# Altium footprint library Main.PcbLib: 62 footprints (part 3 of 4)
Each footprint in its own frame and in the unit in brackets; x right, y up, seen from the top. Pads: shape width x height; smd on the part's side, far side on the other; paste and mask are expansions set on the pad; w line width, h text height; cw(c..) or ccw(c..) is an arc to the next point about the centre after c.
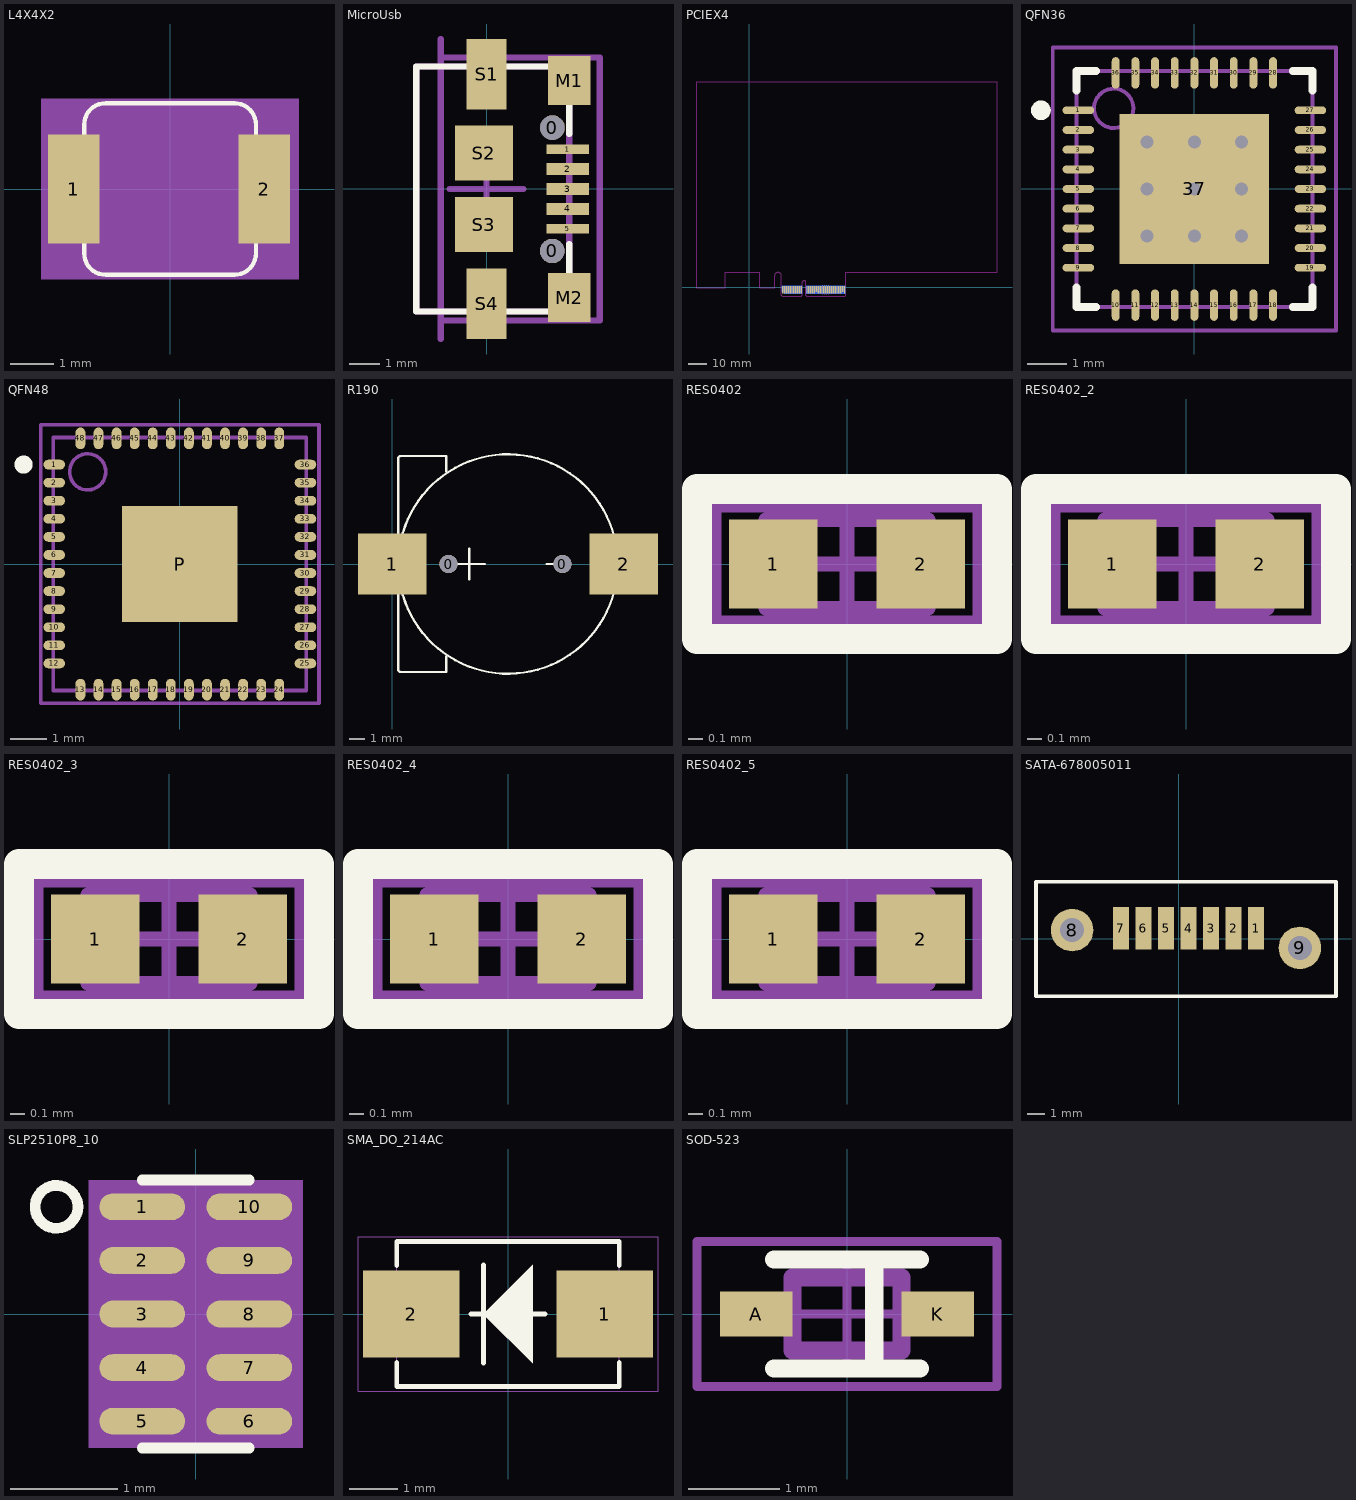
[diagram p2: the footprints below, top view; thin cyan lines are the x and y axes]

## L4X4X2 [mm]
pads (2):
  rect 1.2x2.54 smd: 1(-2.25,0) 2(2.2,0)
Top Overlay:
  lines w0.1: -2,-1.5 ccw(c-1.5,-1.5) -1.5,-2 1.5,-2 ccw(c1.5,-1.5) 2,-1.5 2,1.5 ccw(c1.5,1.5) 1.5,2 -1.5,2 ccw(c-1.5,1.5) -2,1.5 -2,-1.5
Mechanical 7:
  lines w0.025: -2,-1.5 ccw(c-1.5,-1.5) -1.5,-2 1.5,-2 ccw(c1.5,-1.5) 2,-1.5 2,1.5 ccw(c1.5,1.5) 1.5,2 -1.5,2 ccw(c-1.5,1.5) -2,1.5 -2,-1.5
Mechanical 8:
  region: -3,-2.1 3,-2.1 3,2.1 -3,2.1
3D body: height 3.81, standoff 0, extent -3,-2.1 3,2.1

## MicroUsb [mm]
pads (13):
  round 0.8 hole 0.8: 0(2.144,-2.032) 0(2.15,2)
  rect 1.4x0.305 smd: 1(2.647,1.293) 5(2.647,-1.307)
  rect 1.4x0.4 smd: 2(2.647,0.643) 3(2.647,-0.007) 4(2.647,-0.657)
  rect 1.4x1.6 smd: M1(2.697,3.531) M2(2.697,-3.556)
  rect 1.3x2.3 smd: S1(-0.003,3.743) S4(-0.003,-3.757)
  rect 1.9x1.8 smd: S2(-0.092,1.168) S3(-0.092,-1.168)
Top Overlay:
  lines w0.203: 2.697,-1.807 2.697,-4.007 -2.303,-4.007 -2.303,3.993 2.697,3.993 2.697,1.793
Mechanical 13:
  lines w0.203: -2.303,-4.007 2.697,-4.007 2.697,3.993 -2.303,3.993 -2.303,-4.007
Mechanical 15:
  lines w0.203: -1.503,-4.907 -1.503,-2.507 ; -1.503,2.493 -1.503,4.893 ; -1.203,-0.007 1.197,-0.007 ; -0.003,-1.207 -0.003,1.193 ; -1.503,-4.307 3.697,-4.307 3.697,-3.107 3.697,4.293 -1.503,4.293 -1.503,-4.307
3D body: height 2, standoff 0, extent -2.37,-3.743 2.63,4.257

## PCBComponent_1 [mm]

## PCIEX4 [mm]
pads (64):
  rect 0.7x3.2 smd far side: A1(17.678,-0.897)
  rect 0.7x4.2 smd far side: A2(18.678,-1.397) A3(19.678,-1.397) A4(20.678,-1.397) A5(21.678,-1.397) A6(22.678,-1.397) A7(23.678,-1.397) A8(24.678,-1.397) A9(25.678,-1.397) A10(26.678,-1.397) A11(27.678,-1.397) A12(30.678,-1.397) A13(31.678,-1.397) A14(32.678,-1.397) A15(33.678,-1.397) A16(34.678,-1.397) A17(35.678,-1.397) A18(36.678,-1.397) A19(37.678,-1.397) A20(38.678,-1.397) A21(39.678,-1.397) A22(40.678,-1.397) A23(41.678,-1.397) A24(42.678,-1.397) A25(43.678,-1.397) A26(44.678,-1.397) A27(45.678,-1.397) A28(46.678,-1.397) A29(47.678,-1.397) A30(48.678,-1.397) A31(49.678,-1.397) A32(50.678,-1.397)
  rect 0.7x4.2 smd: B1(17.678,-1.397) B2(18.678,-1.397) B3(19.678,-1.397) B4(20.678,-1.397) B5(21.678,-1.397) B6(22.678,-1.397) B7(23.678,-1.397) B8(24.678,-1.397) B9(25.678,-1.397) B10(26.678,-1.397) B11(27.678,-1.397) B12(30.678,-1.397) B13(31.678,-1.397) B14(32.678,-1.397) B15(33.678,-1.397) B16(34.678,-1.397) B18(36.678,-1.397) B19(37.678,-1.397) B20(38.678,-1.397) B21(39.678,-1.397) B22(40.678,-1.397) B23(41.678,-1.397) B24(42.678,-1.397) B25(43.678,-1.397) B26(44.678,-1.397) B27(45.678,-1.397) B28(46.678,-1.397) B29(47.678,-1.397) B30(48.678,-1.397) B32(50.678,-1.397)
  rect 0.7x3.2 smd: B17(35.678,-0.897) B31(49.678,-0.897)
Keep-Out Layer:
  lines w0.025: -27.972,-0.397 -12.972,-0.397 -12.972,7.853 5.378,7.853 5.378,-0.397 13.378,-0.397 13.378,6.028 cw(c15.203,6.028) 15.203,7.853 cw(c15.203,6.028) 17.028,6.028 17.028,-4.397 17.528,-4.897 27.728,-4.897 28.228,-4.397 28.228,2.553 cw(c29.178,2.553) 29.178,3.503 cw(c29.178,2.553) 30.128,2.553 30.128,-4.397 30.628,-4.897 50.856,-4.897 51.308,-4.445 51.308,7.853 131.99,7.853 131.99,109.603 -27.972,109.603 -27.972,-0.397
Mechanical 8:
  lines w0.025: 39.178,-3.697 39.178,0.903 ; 40.178,-3.697 40.178,0.903 ; 41.178,-3.697 41.178,0.903 ; 42.178,-3.697 42.178,0.903

## QFN36 [mm]
pads (37):
  oval 0.8x0.2 smd: 1(-2.95,2) 2(-2.95,1.5) 3(-2.95,1) 4(-2.95,0.5) 5(-2.95,0) 6(-2.95,-0.5) 7(-2.95,-1) 8(-2.95,-1.5) 9(-2.95,-2) 19(2.95,-2) 20(2.95,-1.5) 21(2.95,-1) 22(2.95,-0.5) 23(2.95,0) 24(2.95,0.5) 25(2.95,1) 26(2.95,1.5) 27(2.95,2)
  oval 0.2x0.8 smd: 10(-2,-2.95) 11(-1.5,-2.95) 12(-1,-2.95) 13(-0.5,-2.95) 14(0,-2.95) 15(0.5,-2.95) 16(1,-2.95) 17(1.5,-2.95) 18(2,-2.95) 28(2,2.95) 29(1.5,2.95) 30(1,2.95) 31(0.5,2.95) 32(0,2.95) 33(-0.5,2.95) 34(-1,2.95) 35(-1.5,2.95) 36(-2,2.95)
  rect 3.8x3.8 smd: 37(0,0)
via -1.2,1.2 diameter 0.66 hole 0.33
via 0,1.2 diameter 0.66 hole 0.33
via 1.2,1.2 diameter 0.66 hole 0.33
via -1.2,0 diameter 0.66 hole 0.33
via 0,0 diameter 0.66 hole 0.33
via 1.2,0 diameter 0.66 hole 0.33
via -1.2,-1.2 diameter 0.66 hole 0.33
via 0,-1.2 diameter 0.66 hole 0.33
via 1.2,-1.2 diameter 0.66 hole 0.33
Top Overlay:
  circle w0.25: c-3.9,2 r0.125
  lines w0.2: -3,-2.5 -3,-3 -2.5,-3 ; -3,2.5 -3,3 -2.5,3 ; 2.5,-3 3,-3 3,-2.5 ; 2.5,3 3,3 3,2.5
Mechanical 13:
  circle w0.1: c-2.05,2.05 r0.5
  lines w0.1: -3,-3 -3,3 3,3 3,-3 -3,-3
Mechanical 15:
  lines w0.1: -0.5,0 0.5,0 ; 0,-0.5 0,0.5 ; -3.6,-3.6 -3.6,3.6 3.6,3.6 3.6,-3.6 -3.6,-3.6
3D body: height 0.8, standoff 0.01, extent -3,-3 3,3

## QFN48 [mm]
pads (49):
  oval 0.6x0.27 smd: 1(-3.475,2.75) 2(-3.475,2.25) 3(-3.475,1.75) 4(-3.475,1.25) 5(-3.475,0.75) 6(-3.475,0.25) 7(-3.475,-0.25) 8(-3.475,-0.75) 9(-3.475,-1.25) 10(-3.475,-1.75) 11(-3.475,-2.25) 12(-3.475,-2.75) 25(3.475,-2.75) 26(3.475,-2.25) 27(3.475,-1.75) 28(3.475,-1.25) 29(3.475,-0.75) 30(3.475,-0.25) 31(3.475,0.25) 32(3.475,0.75) 33(3.475,1.25) 34(3.475,1.75) 35(3.475,2.25) 36(3.475,2.75)
  oval 0.27x0.6 smd: 13(-2.75,-3.475) 14(-2.25,-3.475) 15(-1.75,-3.475) 16(-1.25,-3.475) 17(-0.75,-3.475) 18(-0.25,-3.475) 19(0.25,-3.475) 20(0.75,-3.475) 21(1.25,-3.475) 22(1.75,-3.475) 23(2.25,-3.475) 24(2.75,-3.475) 37(2.75,3.475) 38(2.25,3.475) 39(1.75,3.475) 40(1.25,3.475) 41(0.75,3.475) 42(0.25,3.475) 43(-0.25,3.475) 44(-0.75,3.475) 45(-1.25,3.475) 46(-1.75,3.475) 47(-2.25,3.475) 48(-2.75,3.475)
  rect 3.2x3.2 smd: P(0,0)
Top Overlay:
  circle w0.25: c-4.325,2.75 r0.125
Mechanical 13:
  circle w0.1: c-2.55,2.55 r0.5
  lines w0.1: -3.5,-3.5 -3.5,3.5 3.5,3.5 3.5,-3.5 -3.5,-3.5
Mechanical 15:
  lines w0.1: -0.5,0 0.5,0 ; 0,-0.5 0,0.5 ; -3.85,-3.85 -3.85,3.85 3.85,3.85 3.85,-3.85 -3.85,-3.85
3D body: height 1, standoff 0.05, extent -3.5,-3.5 3.5,3.5

## R190 [mm]
pads (4):
  round 1.2 hole 1.2: 0(3.708,0) 0(11.201,0)
  rect 4.5x4 smd: 1(0,0) 2(15.24,0)
Top Overlay:
  circle w0.152: c7.62,0 r7.22
  lines w0.152: 3.556,-6.096 3.556,-7.112 0.508,-7.112 0.4,-7.004 0.4,0 0.4,7.004 0.508,7.112 3.556,7.112 3.556,6.096 ; 4.064,0 6.096,0 ; 5.08,-1.016 5.08,1.016 ; 10.16,0 11.684,0

## RES0402 [mm]
pads (2):
  rect 0.6x0.6 smd: 1(-0.5,0) 2(0.5,0)
Top Overlay:
  lines w0.2: -1.016,-0.508 -1.016,0.508 1.016,0.508 1.016,-0.508 -1.016,-0.508
Mechanical 13:
  lines w0.1: -0.55,-0.3 0.55,-0.3 0.55,0.3 -0.55,0.3 -0.55,-0.3
Mechanical 15:
  lines w0.1: -0.3,0 0.3,0 ; 0,-0.3 0,0.3 ; -0.9,-0.4 -0.9,0.4 0.9,0.4 0.9,-0.4 -0.9,-0.4
3D body: height 0.6, standoff 0, extent -0.55,-0.3 0.55,0.3

## RES0402_2 [mm]
pads (2):
  rect 0.6x0.6 smd: 1(-0.5,0) 2(0.5,0)
Top Overlay:
  lines w0.2: -1.016,-0.508 -1.016,0.508 1.016,0.508 1.016,-0.508 -1.016,-0.508
Mechanical 13:
  lines w0.1: -0.55,-0.3 0.55,-0.3 0.55,0.3 -0.55,0.3 -0.55,-0.3
Mechanical 15:
  lines w0.1: -0.3,0 0.3,0 ; 0,-0.3 0,0.3 ; -0.9,-0.4 -0.9,0.4 0.9,0.4 0.9,-0.4 -0.9,-0.4
3D body: height 0.6, standoff 0, extent -0.55,-0.3 0.55,0.3

## RES0402_3 [mm]
pads (2):
  rect 0.6x0.6 smd: 1(-0.5,0) 2(0.5,0)
Top Overlay:
  lines w0.2: -1.016,-0.508 -1.016,0.508 1.016,0.508 1.016,-0.508 -1.016,-0.508
Mechanical 13:
  lines w0.1: -0.55,-0.3 0.55,-0.3 0.55,0.3 -0.55,0.3 -0.55,-0.3
Mechanical 15:
  lines w0.1: -0.3,0 0.3,0 ; 0,-0.3 0,0.3 ; -0.9,-0.4 -0.9,0.4 0.9,0.4 0.9,-0.4 -0.9,-0.4
3D body: height 0.6, standoff 0, extent -0.55,-0.3 0.55,0.3

## RES0402_4 [mm]
pads (2):
  rect 0.6x0.6 smd: 1(-0.5,0) 2(0.5,0)
Top Overlay:
  lines w0.2: -1.016,-0.508 1.016,-0.508 1.016,0.508 -1.016,0.508 -1.016,-0.508
Mechanical 13:
  lines w0.1: -0.55,-0.3 -0.55,0.3 0.55,0.3 0.55,-0.3 -0.55,-0.3
Mechanical 15:
  lines w0.1: -0.3,0 0.3,0 ; 0,-0.3 0,0.3 ; -0.9,-0.4 0.9,-0.4 0.9,0.4 -0.9,0.4 -0.9,-0.4
3D body: height 0.6, standoff 0, extent -0.55,-0.3 0.55,0.3

## RES0402_5 [mm]
pads (2):
  rect 0.6x0.6 smd: 1(-0.5,0) 2(0.5,0)
Top Overlay:
  lines w0.2: -1.016,-0.508 1.016,-0.508 1.016,0.508 -1.016,0.508 -1.016,-0.508
Mechanical 13:
  lines w0.1: -0.55,-0.3 -0.55,0.3 0.55,0.3 0.55,-0.3 -0.55,-0.3
Mechanical 15:
  lines w0.1: -0.3,0 0.3,0 ; 0,-0.3 0,0.3 ; -0.9,-0.4 0.9,-0.4 0.9,0.4 -0.9,0.4 -0.9,-0.4
3D body: height 0.6, standoff 0, extent -0.55,-0.3 0.55,0.3

## SATA-678005011 [mm]
pads (9):
  rect 0.9x2.4 smd: 1(4.37,0.6) 2(3.1,0.6) 3(1.83,0.6) 4(0.56,0.6) 5(-0.71,0.6) 6(-1.98,0.6) 7(-3.25,0.6)
  round 2.4 hole 1.35: 8(-6,0.5) 9(6.83,-0.5)
Top Overlay:
  lines w0.2: -8.035,-3.225 -8.035,3.225 8.865,3.225 8.865,-3.225 -8.035,-3.225

## SLP2510P8_10 [mm]
pads (10):
  oval 0.8x0.25 smd: 1(-0.5,1) 2(-0.5,0.5) 3(-0.5,0) 4(-0.5,-0.5) 5(-0.5,-1) 6(0.5,-1) 7(0.5,-0.5) 8(0.5,0) 9(0.5,0.5) 10(0.5,1)
Top Overlay:
  circle w0.1: c-1.3,1 r0.2
  lines w0.1: -0.5,-1.25 0.5,-1.25 ; -0.5,1.25 0.5,1.25
Mechanical 6:
  text "3" at -0.5,0.07 h0.76
  text "6" at 0.5,-0.93 h0.76
  text "5" at -0.5,-0.93 h0.76
  text "4" at -0.5,-0.43 h0.76
Mechanical 7:
  lines w0.025: -0.5,-1.25 0.5,-1.25 0.5,1.25 -0.5,1.25 -0.5,-1.25
Mechanical 8:
  region: -1,-1.25 1,-1.25 1,1.25 -1,1.25
3D body: height 3.81, standoff 0, extent -1,-1.25 1,1.25

## SMA_DO_214AC [mm]
pads (2):
  rect 2x1.8 smd: 1(2,0) 2(-2,0)
Top Overlay:
  pour cut-out: 0.508,-1.016 0.508,1.016 -0.508,0
  lines w0.1: -2.3,-1 -2.3,-1.5 2.3,-1.5 2.3,-1 ; -2.3,1 -2.3,1.5 2.3,1.5 2.3,1 ; -0.762,0 0.762,0 ; -0.508,-1.016 -0.508,1.016
Mechanical 6:
  text "2" at -2,0.45 h0.76
  text "1" at 2,0.45 h0.76
Mechanical 9:
  lines w0.025: -3.1,-1.6 3.1,-1.6 3.1,1.6 -3.1,1.6 -3.1,-1.6
Mechanical 10:
  lines w0.025: -2.3,-1.5 2.3,-1.5 2.3,1.5 -2.3,1.5 -2.3,-1.5

## SOD-523 [mm]
pads (2):
  rect 0.8x0.5 smd: A(-1,0) K(1,0)
Top Overlay:
  lines w0.2: -0.8,-0.6 0.8,-0.6 ; -0.8,0.6 0.8,0.6 ; 0.3,-0.6 0.3,0.6
Mechanical 13:
  lines w0.2: -0.6,-0.4 0.6,-0.4 0.6,0.4 -0.6,0.4 -0.6,-0.4
Mechanical 15:
  lines w0.1: -0.5,0 0.5,0 ; 0,-0.6 0,0.6 ; -1.651,-0.8 1.651,-0.8 1.651,0.8 -1.651,0.8 -1.651,-0.8
3D body: height 2, standoff 0, extent -0.6,-0.4 0.6,0.4